# Altium schematic symbol library MOSFETSOT23.SchLib: 1 symbol
Pins are listed as number, name and electrical type; pins without a type are passive.

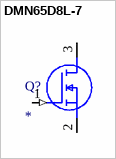
[diagram p0: symbol DMN65D8L-7]

## DMN65D8L-7
designator Q?
MOSFET (N-Channel); Manufacturer_Name: Diodes Inc.; Manufacturer_Part_Number: DMN65D8L-7; Allied_Number: 70550687; Datasheet Link: https://www.diodes.com/assets/Datasheets/DMN65D8L.pdf; Height: 1mm; Mouser Part Number: 621-DMN65D8L-7; Mouser Price/Stock: https://www.mouser.com/Search/Refine.aspx?Keyword=621-DMN65D8L-7; RS Part Number: 8232952P; RS Price/Stock: http://uk.rs-online.com/web/p/products/8232952P; Allied Price/Stock: https://www.alliedelec.com/diodes-inc-dmn65d8l-7/70550687/
footprint SOT96P240X100-3N
pins: 1 G (in), 2 S, 3 D